# Altium footprint library PcbLib1.PcbLib: 4 footprints
Each footprint in its own frame and in the unit in brackets; x right, y up, seen from the top. Pads: shape width x height; smd on the part's side, far side on the other; paste and mask are expansions set on the pad; w line width, h text height; cw(c..) or ccw(c..) is an arc to the next point about the centre after c.
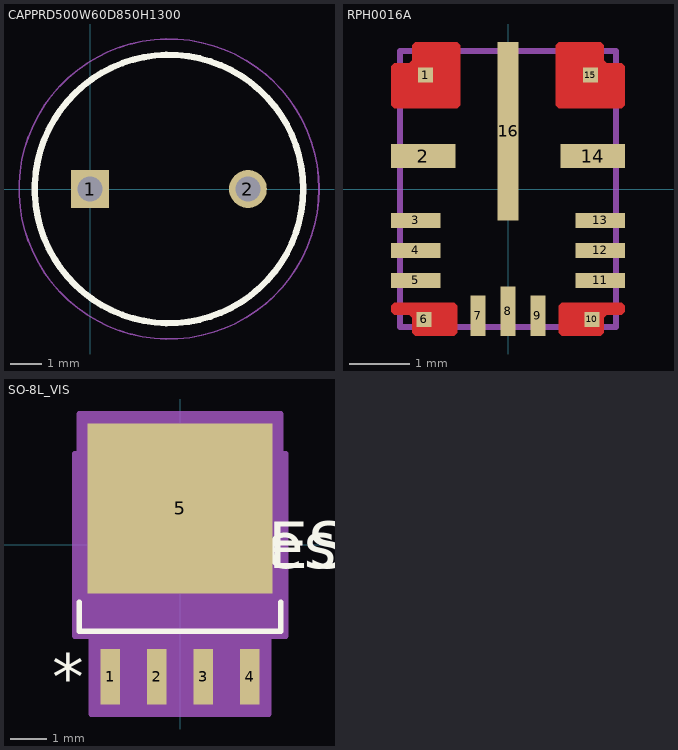
[diagram p0: the footprints below, top view; thin cyan lines are the x and y axes]

## CAPPRD500W60D850H1300 [mm]
pads (2):
  rect 1.2x1.2 / inner round 1.2 / far side rect 1.2x1.2 hole 0.8: 1(0,0)
  round 1.2 hole 0.8: 2(5,0)
Top Overlay:
  circle w0.2: c2.5,0 r4.25
Mechanical 15:
  circle w0.1: c2.5,0 r4.25
Mechanical 20:
  circle w0.05: c2.5,0 r4.75

## PCBComponent_1 [mm]

## RPH0016A [mm]
pads (16):
  rect 0.25x0.25 smd paste-0.112 mask+0.051: 1(-1.375,1.9) 6(-1.4,-2.175) 10(1.4,-2.175) 15(1.375,1.9)
  rect 1.075x0.4 smd paste+0 mask+0.051: 2(-1.413,0.55) 14(1.413,0.55)
  rect 0.825x0.25 smd paste+0 mask+0.051: 3(-1.538,-0.525) 4(-1.538,-1.025) 5(-1.538,-1.525) 11(1.538,-1.525) 12(1.538,-1.025) 13(1.538,-0.525)
  rect 0.25x0.675 smd paste+0 mask+0.051: 7(-0.5,-2.113) 9(0.5,-2.113)
  rect 0.25x0.825 smd paste+0 mask+0.051: 8(0,-2.038)
  rect 0.35x2.975 smd paste+0 mask+0.051: 16(0,0.963)
Top Layer:
  region: 1.95,-1.95 1.95,-2.05 1.9,-2.1 1.65,-2.1 1.6,-2.15 1.6,-2.4 1.55,-2.45 0.9,-2.45 0.85,-2.4 0.85,-1.95 0.9,-1.9 1.9,-1.9
  region: -1.95,-1.95 -1.95,-2.05 -1.9,-2.1 -1.65,-2.1 -1.6,-2.15 -1.6,-2.4 -1.55,-2.45 -0.9,-2.45 -0.85,-2.4 -0.85,-1.95 -0.9,-1.9 -1.9,-1.9
  region: -1.9,1.35 -1.95,1.4 -1.95,2.05 -1.9,2.1 -1.65,2.1 -1.6,2.15 -1.6,2.4 -1.55,2.45 -0.85,2.45 -0.8,2.4 -0.8,1.4 -0.85,1.35
  region: 1.9,1.35 1.95,1.4 1.95,2.05 1.9,2.1 1.65,2.1 1.6,2.15 1.6,2.4 1.55,2.45 0.85,2.45 0.8,2.4 0.8,1.4 0.85,1.35
Top Paste:
  region: -0.85,1.35 -0.8,1.4 -0.8,2.34 -0.85,2.39 -1.49,2.39 -1.54,2.34 -1.54,2.09 -1.59,2.04 -1.79,2.04 -1.84,1.99 -1.84,1.4 -1.79,1.35
  region: -0.85,-1.95 -0.85,-2.35 -0.9,-2.4 -1.52,-2.4 -1.57,-2.35 -1.57,-2.15 -1.62,-2.1 -1.9,-2.1 -1.95,-2.05 -1.95,-1.95 -1.9,-1.9 -0.9,-1.9
  region: 0.85,-1.95 0.85,-2.35 0.9,-2.4 1.52,-2.4 1.57,-2.35 1.57,-2.15 1.62,-2.1 1.9,-2.1 1.95,-2.05 1.95,-1.95 1.9,-1.9 0.9,-1.9
  region: 0.85,1.35 0.8,1.4 0.8,2.34 0.85,2.39 1.49,2.39 1.54,2.34 1.54,2.09 1.59,2.04 1.79,2.04 1.84,1.99 1.84,1.4 1.79,1.35
Top Solder:
  drawing of 4 lines, arcs and shapes, not listed
Mechanical 13:
  circle w0.1: c-1.2,1.7 r0.3
  lines w0.1: -1.8,-2.3 -1.8,2.3 1.8,2.3 1.8,-2.3 -1.8,-2.3

## SO-8L_VIS [mil]
pads (5):
  rect 21x60 smd paste+0 mask+0: 1(-75,-142) 2(-25,-142) 3(25,-142) 4(75,-142)
  rect 199x183 smd paste+0 mask+0: 5(0,39.5)
Top Overlay:
  lines w6: -108.5,-61.52 -108.5,-93 108.5,-93 108.5,-61.52
  text "REFDES" at -87.5,-25 h50
  text "*" at -137.5,-167 h50
  text "RefDes" at -75,-25 h50
Mechanical 13:
  lines w1: -103.5,-88 103.5,-88 103.5,88 -103.5,88 -103.5,-88 ; -84.5,-158 -84.5,-88 -65.5,-88 -65.5,-158 -84.5,-158 ; -34.5,-158 -34.5,-88 -15.5,-88 -15.5,-158 -34.5,-158 ; 15.5,-158 15.5,-88 34.5,-88 34.5,-158 15.5,-158 ; 65.5,-158 65.5,-88 84.5,-88 84.5,-158 65.5,-158
  text "*" at -87.5,-103 h50
  text "RefDes2" at -87.5,-25 h50
Mechanical 15:
  region: -113.5,-98 -113.5,98 -108.5,98 -108.5,141 108.5,141 108.5,98 113.5,98 113.5,-98 95.5,-98 95.5,-182 -95.5,-182 -95.5,-98
  lines w6: -113.5,-98 -113.5,98 -108.5,98 -108.5,141 108.5,141 108.5,98 113.5,98 113.5,-98 95.5,-98 95.5,-182 -95.5,-182 -95.5,-98 -113.5,-98
3D body "SO-8L_VIS.step": height 45.12, standoff -2.01, extent -103.5,-157.99 103.5,110